# Altium footprint library Arduino Nano Every.PcbLib: 1 footprints
Each footprint in its own frame and in the unit in brackets; x right, y up, seen from the top. Pads: shape width x height; smd on the part's side, far side on the other; paste and mask are expansions set on the pad; w line width, h text height; cw(c..) or ccw(c..) is an arc to the next point about the centre after c.
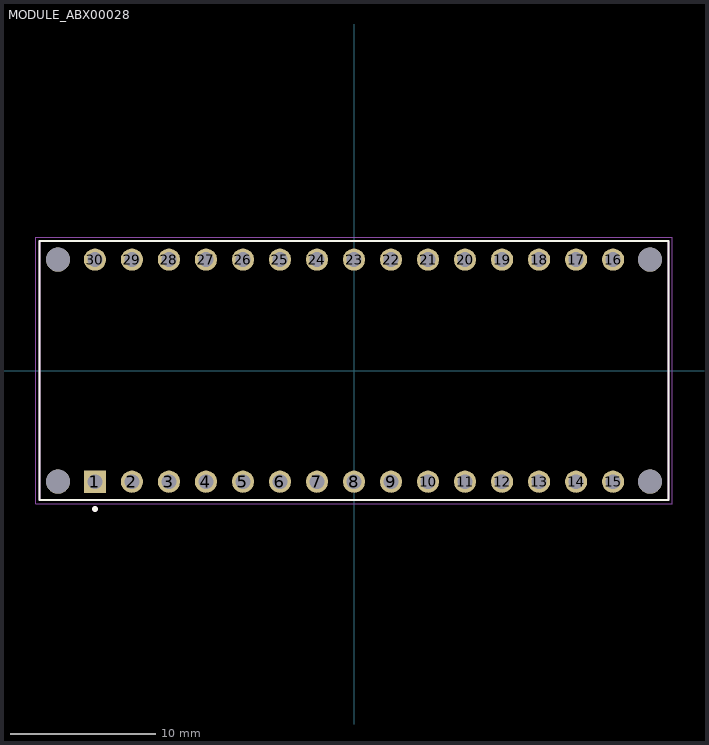
[diagram p0: the footprint, top view; thin cyan lines are the x and y axes]

## MODULE_ABX00028 [mil]
pads (34):
  rect 60x60 hole 40: 1(-700,-300)
  round 60 hole 40: 2(-600,-300) 3(-500,-300) 4(-400,-300) 5(-300,-300) 6(-200,-300) 7(-100,-300) 8(0,-300) 9(100,-300) 10(200,-300) 11(300,-300) 12(400,-300) 13(500,-300) 14(600,-300) 15(700,-300) 16(700,300) 17(600,300) 18(500,300) 19(400,300) 20(300,300) 21(200,300) 22(100,300) 23(0,300) 24(-100,300) 25(-200,300) 26(-300,300) 27(-400,300) 28(-500,300) 29(-600,300) 30(-700,300)
  round 65 hole 65 unplated: ""(-800,-300) ""(-800,300) ""(800,-300) ""(800,300)
Top Overlay:
  circle w7.87: c-700,-374.02 r3.94
  lines w5: -850,-350 850,-350 850,350 -850,350 -850,-350
Mechanical 13:
  circle w7.87: c-700,-374.02 r3.94
  lines w5: -850,-350 850,-350 850,350 -850,350 -850,-350
Mechanical 15:
  lines w1.97: -859.84,-359.84 859.84,-359.84 859.84,359.84 -859.84,359.84 -859.84,-359.84
3D body "step_temp.STEP": height 236.22, standoff -236.22, extent -895.28,-350 850,350